# EAGLE library part ATTINY816 (library Attiny816)
VQFN20
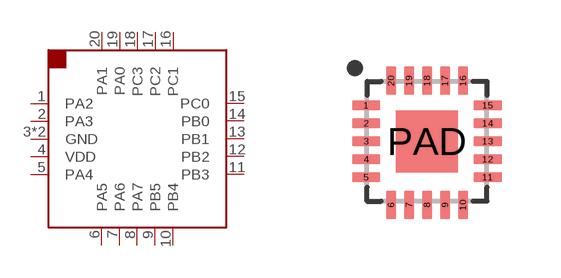
[diagram p0: symbol with the pads of VQFN20; footprint VQFN20]

Designator prefix P

## ATTINY816 (A_MAX: 0.85; A_MIN: 0.75; A_NOM: 0.8; B_MAX: 0.27; B_MIN: 0.17; B_NOM: 0.22; D2_MAX: -2.45; D2_MIN: 1.4; D2_NOM: 1.55; D_MAX: 3.1; D_MIN: 2.9; D_NOM: 3.0; E2_MAX: -2.45; E2_MIN: 1.4; E2_NOM: 1.55; ENOM: 0.45; E_MAX: 3.1; E_MIN: 2.9; E_NOM: 3.0; L_MAX: -1.86; L_MIN: 0.35; L_NOM: 0.4; MANUFACTURER: Microchip; PIN_COUNT_D: 5.0; PIN_COUNT_E: 5.0; SNAPEDA_PACKAGE_ID: 24129)  [VQFN20]
1  PA2
2  PA3
3  GND
4  VDD
5  PA4
6  PA5
7  PA6
8  PA7
9  PB5
10  PB4
11  PB3
12  PB2
13  PB1
14  PB0
15  PC0
16  PC1
17  PC2
18  PC3
19  PA0
20  PA1
PAD  GND

## Footprint VQFN20 (pad centres in mm)
smd 0.7 x 0.24: 1 -1.52,0.9; 2 -1.52,0.45; 3 -1.52,0; 4 -1.52,-0.45; 5 -1.52,-0.9; 11 1.52,-0.9; 12 1.52,-0.45; 13 1.52,0; 14 1.52,0.45; 15 1.52,0.9
smd 0.24 x 0.7: 6 -0.9,-1.59; 7 -0.45,-1.59; 8 0,-1.59; 9 0.45,-1.59; 10 0.9,-1.59; 16 0.9,1.52; 17 0.45,1.52; 18 0,1.52; 19 -0.45,1.52; 20 -0.9,1.52
smd 1.55 x 1.55: PAD 0,0